# EAGLE library part THB001P (library c&k_joy)
Check availability <https://pricing.snapeda.com/parts/THB001P/C%26K/view-part?ref=eda>
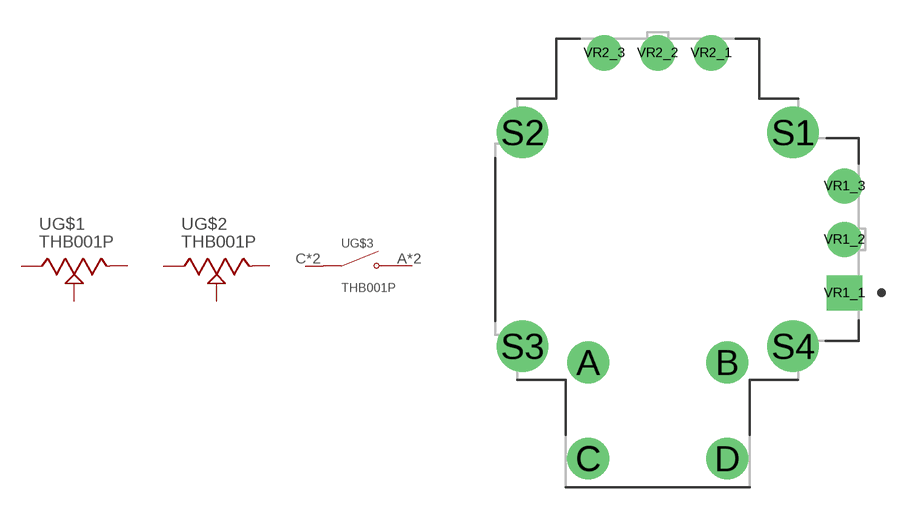
[diagram p0: symbol with the pads of CNK_THB001P; footprint CNK_THB001P]

Designator prefix U; gates G$1=THB001P_SECTION1 G$2=THB001P_SECTION2 G$3=THB001P_SECTION3

## THB001P (Availability: In Stock; Description: Joystick, 2 - Axis Analog (Resistive) Output; MF: C&K; MP: THB001P; Package: None; Price: None; Purchase-URL: https://pricing.snapeda.com/search/part/THB001P/?ref=eda)  [CNK_THB001P]
A  G$3:NO  pas
B  G$3:NO  pas
C  G$3:COM  pas
D  G$3:COM  pas
VR1_1  G$1:VR1_1  pas
VR1_2  G$1:VR1_2  pas
VR1_3  G$1:VR1_3  pas
VR2_1  G$2:VR2_1  pas
VR2_2  G$2:VR2_2  pas
VR2_3  G$2:VR2_3  pas

## Footprint CNK_THB001P (pad centres in mm)
drill 1.3: A -3.25,-5.75; B 3.25,-5.75; C -3.25,-10.25; D 3.25,-10.25
drill 1.6: S1 6.325,5; S2 -6.325,5; S3 -6.325,-5; S4 6.325,-5
drill 1.1 square: VR1_1 8.73,-2.5
drill 1.1: VR1_2 8.73,0; VR1_3 8.73,2.5; VR2_1 2.5,8.73; VR2_2 0,8.73; VR2_3 -2.5,8.73